# EAGLE library part USB-C (library Keys)
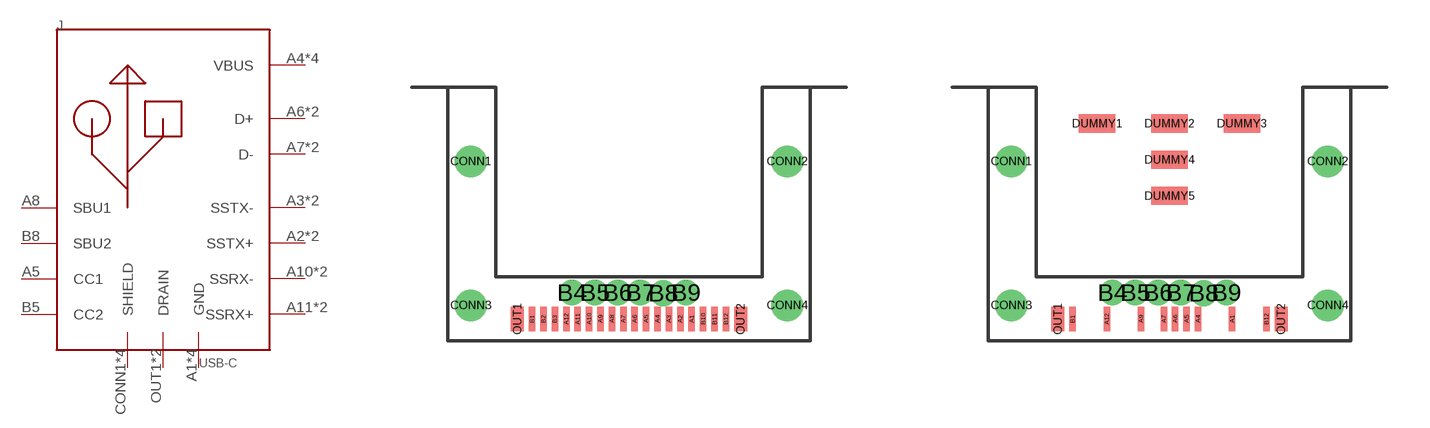
[diagram p2: symbol with the pads of CX70M-P1; footprints CX70M-P1, CX70M-P1_SIMP]

Designator prefix J

## USB-CCM3.0  [CX70M-P1]
A1  GND
A2  SSTX+
A3  SSTX-
A4  VBUS
A5  CC1
A6  D+
A7  D-
A8  SBU1
A9  VBUS
A10  SSRX-
A11  SSRX+
A12  GND
B1  GND
B2  SSTX+
B3  SSTX-
B4  VBUS
B5  CC2
B6  D+
B7  D-
B8  SBU2
B9  VBUS
B10  SSRX-
B11  SSRX+
B12  GND
CONN1  SHIELD
CONN2  SHIELD
CONN3  SHIELD
CONN4  SHIELD
OUT1  DRAIN
OUT2  DRAIN

## USB-CCM2.0  [CX70M-P1_SIMP]
A1  GND
A4  VBUS
A5  CC1
A6  D+
A7  D-
A9  VBUS
A12  GND
B1  GND
B4  VBUS
B5  CC2
B6  D+
B7  D-
B8  SBU2
B9  VBUS
B12  GND
CONN1  SHIELD
CONN2  SHIELD
CONN3  SHIELD
CONN4  SHIELD
DUMMY1  SSRX+
DUMMY2  SSRX-
DUMMY3  SSTX+
DUMMY4  SSTX-
DUMMY5  SBU1
OUT1  DRAIN
OUT2  DRAIN

## USB-CWM3.0  [WM17904]
A1  GND
A2  SSTX+
A3  SSTX-
A4  VBUS
A5  CC1
A6  D+
A7  D-
A8  SBU1
A9  VBUS
A10  SSRX-
A11  SSRX+
A12  GND
B1  GND
B2  SSTX+
B3  SSTX-
B4  VBUS
B5  CC2
B6  D+
B7  D-
B8  SBU2
B9  VBUS
B10  SSRX-
B11  SSRX+
B12  GND
BLADELB  SHIELD
BLADELF  SHIELD
BLADERB  SHIELD
BLADERF  SHIELD
SHELLL  DRAIN
SHELLR  DRAIN

## Footprint CX70M-P1 (pad centres in mm)
smd 0.23 x 0.85: A1 2.2,-8.125; A2 1.8,-8.125; A3 1.4,-8.125; A4 1,-8.125; A5 0.6,-8.125; A6 0.2,-8.125; A7 -0.2,-8.125; A8 -0.6,-8.125; A9 -1,-8.125; A10 -1.4,-8.125; A11 -1.8,-8.125; A12 -2.2,-8.125; B1 -3.4,-8.125; B2 -3,-8.125; B3 -2.6,-8.125; B10 2.6,-8.125; B11 3,-8.125; B12 3.4,-8.125
drill 0.4 pad 0.6: B4 -2,-7.2; B5 -1.2,-7.2; B6 -0.4,-7.2; B7 0.4,-7.2; B8 1.2,-7.22; B9 2,-7.2
drill 0.6: CONN1 -5.55,-2.6; CONN2 5.55,-2.6; CONN3 -5.55,-7.65; CONN4 5.55,-7.65
smd 0.46 x 0.85: OUT1 -3.915,-8.125; OUT2 3.915,-8.125

## Footprint CX70M-P1_SIMP (pad centres in mm)
I'm so sorry, the dummy pins should make it easier? idk anymore
smd 0.23 x 0.85: A1 2.2,-8.125; A4 1,-8.125; A5 0.6,-8.125; A6 0.2,-8.125; A7 -0.2,-8.125; A9 -1,-8.125; A12 -2.2,-8.125; B1 -3.4,-8.125; B12 3.4,-8.125
drill 0.4 pad 0.6: B4 -2,-7.2; B5 -1.2,-7.2; B6 -0.4,-7.2; B7 0.4,-7.2; B8 1.2,-7.22; B9 2,-7.2
drill 0.6: CONN1 -5.55,-2.6; CONN2 5.55,-2.6; CONN3 -5.55,-7.65; CONN4 5.55,-7.65
smd 1.27 x 0.635: DUMMY1 -2.54,-1.27; DUMMY2 0,-1.27; DUMMY3 2.54,-1.27; DUMMY4 0,-2.54; DUMMY5 0,-3.81
smd 0.46 x 0.85: OUT1 -3.915,-8.125; OUT2 3.915,-8.125

## Footprint WM17904 (pad centres in mm)
smd 0.3 x 0.7: A1 -3,7.42; A2 -2.5,7.42; A3 -2,7.42; A4 -1.5,7.42; A5 -1,7.42; A6 -0.5,7.42; A7 0.5,7.42; A8 1,7.42; A9 1.5,7.42; A10 2,7.42; A11 2.5,7.42; A12 3,7.42; B2 2.25,6.12; B3 1.75,6.12; B4 1.25,6.12; B5 0.75,6.12; B6 0.25,6.12; B7 -0.25,6.12; B8 -0.75,6.12; B9 -1.25,6.12; B10 -1.75,6.12; B11 -2.25,6.12
smd 1 x 0.7: B1 3.1,6.12; B12 -3.1,6.12
drill 0.6 pad 1.1 long: BLADELB -5.65,2.05; BLADELF -5.65,1.25; BLADERB 5.65,2.05
drill 0.5 pad 1.1 long: BLADERF 5.65,1.25; SHELLL -4.32,7.01
drill 0.6 long: SHELLR 4.32,7.01